# Altium schematic symbol library Schlib_C0805.SchLib: 6 symbols
Pins are listed as number, name and electrical type; pins without a type are passive.

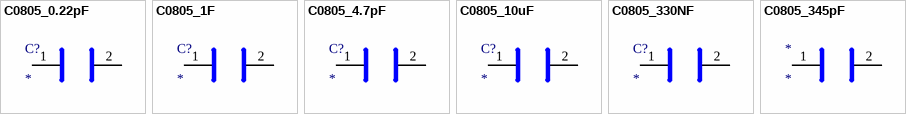
[diagram p0: symbols C0805_0.22pF to C0805_345pF]

## C0805_0.22pF
designator C?
C0805_0.22pF
footprint C0805 (C0805_0.22pF)
pins: 1, 2

## C0805_1F
designator C?
C0805_1F
footprint C0805 (C0805_0.22pF)
pins: 1, 2

## C0805_4.7pF
designator C?
C0805_4.7pF
footprint C0805 (C0805_0.22pF)
pins: 1, 2

## C0805_10uF
designator C?
C0805_10uF
footprint C0805 (C0805_0.22pF)
pins: 1, 2

## C0805_330NF
designator C?
C0805_330NF
footprint C0805 (C0805_0.22pF)
pins: 1, 2

## C0805_345pF
designator *
footprint C0805 (C0805_0.22pF)
pins: 1, 2